# EAGLE library part HD647751* (library micro-hitachi)
SH7751 Hitachi SuperH RISC engine The SH7751 Series microprocessor, featuring a built-in PCI bus controller compatible with PCs and multimedia devices. Source: Hitachi, Ltd. SH7751_R_V3.0.pdf
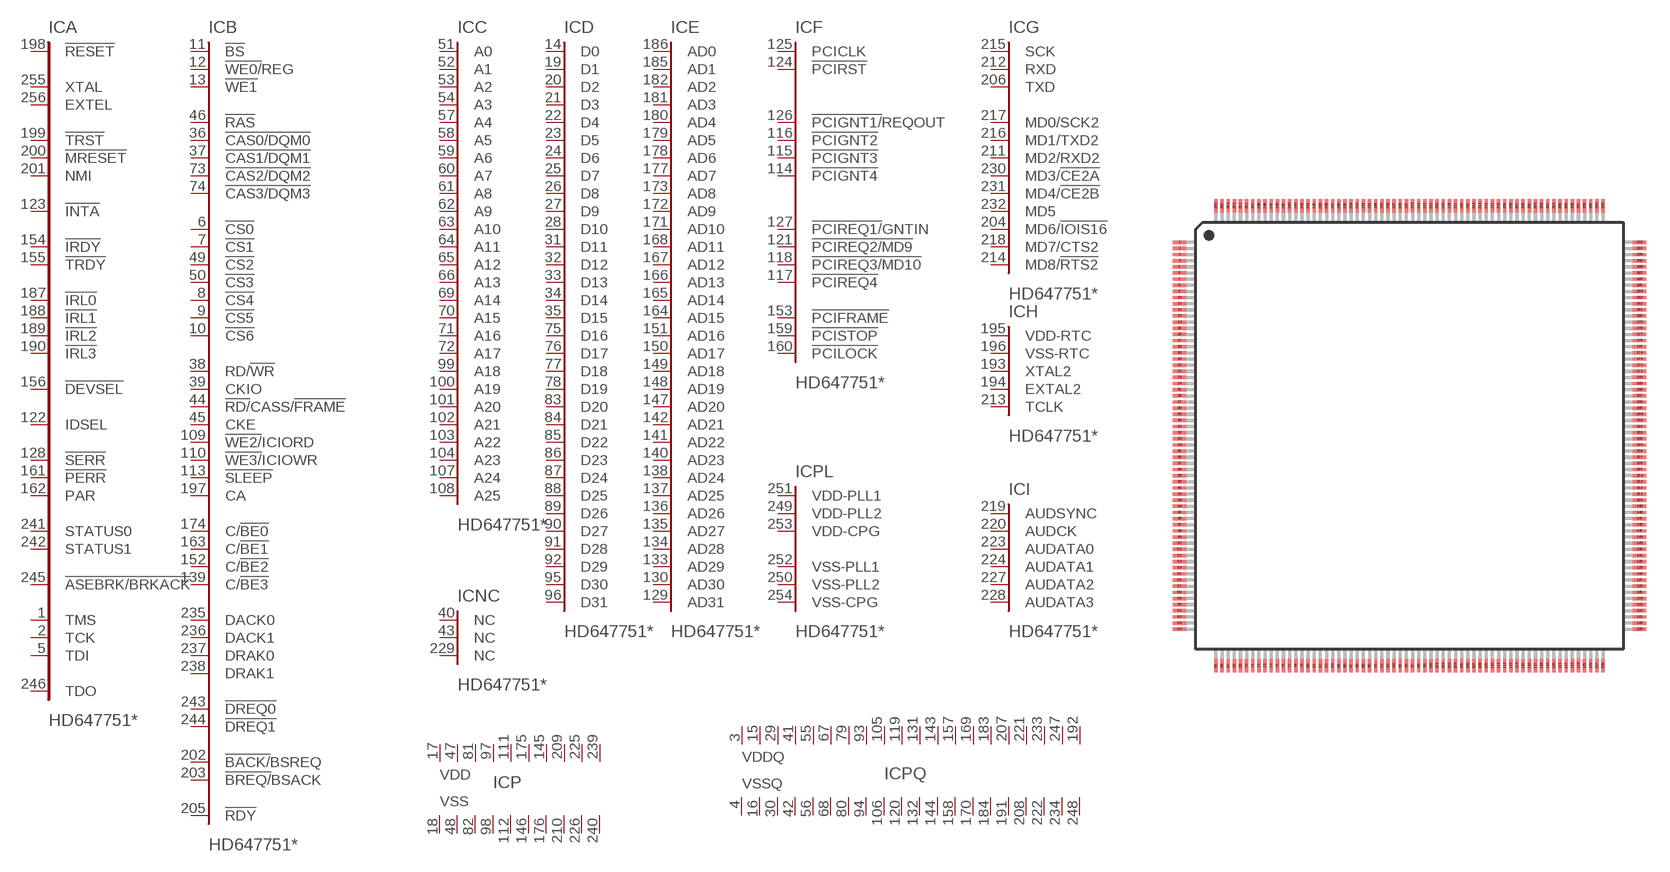
[diagram p1: symbol with the pads of QFP256-28X28; footprint QFP256-28X28]

Designator prefix IC; gates A=SH7751-S C=SH7751-A D=SH7751-D E=SH7751-AD G=SH7751-SER H=SH7751-RTC I=SH7751-AU P=SH7751-PWR PQ=SH7751-PWRQ_Q PL=SH7751-PLL NC=SH7751-NCQ B=SH7751-CONTROL F=SH7751-PCI

## HD647751F167 (OC_FARNELL: unknown; OC_NEWARK: unknown), HD647751RF200 (OC_FARNELL: unknown; OC_NEWARK: unknown), HD647751RF240 (OC_FARNELL: unknown; OC_NEWARK: unknown)  [QFP256-28X28]
1  A:TMS  in
2  A:TCK  in
3  PQ:VDDQ  pwr
4  PQ:VSSQ  pwr
5  A:TDI  in
6  B:!CS0  out
7  B:!CS1  out
8  B:!CS4  out
9  B:!CS5  out
10  B:!CS6  out
11  B:!BS  out
12  B:!WE0/!REG  out
13  B:!WE1  out
14  D:D0
15  PQ:VDDQ  pwr
16  PQ:VSSQ  pwr
17  P:VDD  pwr
18  P:VSS  pwr
19  D:D1
20  D:D2
21  D:D3
22  D:D4
23  D:D5
24  D:D6
25  D:D7
26  D:D8
27  D:D9
28  D:D10
29  PQ:VDDQ  pwr
30  PQ:VSSQ  pwr
31  D:D11
32  D:D12
33  D:D13
34  D:D14
35  D:D15
36  B:!CAS0/DQM0  out
37  B:!CAS1/DQM1  out
38  B:RD/!WR  out
39  B:CKIO  out
40  NC:NC  nc
41  PQ:VDDQ  pwr
42  PQ:VSSQ  pwr
43  NC:NC  nc
44  B:!RD/!CASS/!FRAME  out
45  B:CKE  out
46  B:!RAS  out
47  P:VDD  pwr
48  P:VSS  pwr
49  B:!CS2  out
50  B:!CS3  out
51  C:A0  out
52  C:A1  out
53  C:A2  out
54  C:A3  out
55  PQ:VDDQ  pwr
56  PQ:VSSQ  pwr
57  C:A4  out
58  C:A5  out
59  C:A6  out
60  C:A7  out
61  C:A8  out
62  C:A9  out
63  C:A10  out
64  C:A11  out
65  C:A12  out
66  C:A13  out
67  PQ:VDDQ  pwr
68  PQ:VSSQ  pwr
69  C:A14  out
70  C:A15  out
71  C:A16  out
72  C:A17  out
73  B:!CAS2/DQM2  out
74  B:!CAS3/DQM3  out
75  D:D16
76  D:D17
77  D:D18
78  D:D19
79  PQ:VDDQ  pwr
80  PQ:VSSQ  pwr
81  P:VDD  pwr
82  P:VSS  pwr
83  D:D20
84  D:D21
85  D:D22
86  D:D23
87  D:D24
88  D:D25
89  D:D26
90  D:D27
91  D:D28
92  D:D29
93  PQ:VDDQ  pwr
94  PQ:VSSQ  pwr
95  D:D30
96  D:D31
97  P:VDD  pwr
98  P:VSS  pwr
99  C:A18  out
100  C:A19  out
101  C:A20  out
102  C:A21  out
103  C:A22  out
104  C:A23  out
105  PQ:VDDQ  pwr
106  PQ:VSSQ  pwr
107  C:A24  out
108  C:A25  out
109  B:!WE2/!ICIORD  out
110  B:!WE3/!ICIOWR  out
111  P:VDD  pwr
112  P:VSS  pwr
113  B:!SLEEP  in
114  F:!PCIGNT4  out
115  F:!PCIGNT3  out
116  F:!PCIGNT2  out
117  F:!PCIREQ4  in
118  F:!PCIREQ3/MD10  in
119  PQ:VDDQ  pwr
120  PQ:VSSQ  pwr
121  F:!PCIREQ2/MD9  in
122  A:IDSEL  in
123  A:!INTA  out
124  F:!PCIRST  out
125  F:PCICLK  in
126  F:!PCIGNT1/!REQOUT  out
127  F:!PCIREQ1/!GNTIN  in
128  A:!SERR
129  E:AD31
130  E:AD30
131  PQ:VDDQ  pwr
132  PQ:VSSQ  pwr
133  E:AD29
134  E:AD28
135  E:AD27
136  E:AD26
137  E:AD25
138  E:AD24
139  B:C/!BE3
140  E:AD23
141  E:AD22
142  E:AD21
143  PQ:VDDQ  pwr
144  PQ:VSSQ  pwr
145  P:VDD  pwr
146  P:VSS  pwr
147  E:AD20
148  E:AD19
149  E:AD18
150  E:AD17
151  E:AD16
152  B:C/!BE2
153  F:!PCIFRAME
154  A:!IRDY
155  A:!TRDY
156  A:!DEVSEL
157  PQ:VDDQ  pwr
158  PQ:VSSQ  pwr
159  F:!PCISTOP
160  F:!PCILOCK
161  A:!PERR
162  A:PAR
163  B:C/!BE1
164  E:AD15
165  E:AD14
166  E:AD13
167  E:AD12
168  E:AD11
169  PQ:VDDQ  pwr
170  PQ:VSSQ  pwr
171  E:AD10
172  E:AD9
173  E:AD8
174  B:C/!BE0
175  P:VDD  pwr
176  P:VSS  pwr
177  E:AD7
178  E:AD6
179  E:AD5
180  E:AD4
181  E:AD3
182  E:AD2
183  PQ:VDDQ  pwr
184  PQ:VSSQ  pwr
185  E:AD1
186  E:AD0
187  A:!IRL0  in
188  A:!IRL1  in
189  A:!IRL2  in
190  A:!IRL3  in
191  PQ:VSSQ  pwr
192  PQ:VDDQ  pwr
193  H:XTAL2  out
194  H:EXTAL2  in
195  H:VDD-RTC  pwr
196  H:VSS-RTC  pwr
197  B:CA  in
198  A:!RESET  in
199  A:!TRST  in
200  A:!MRESET  in
201  A:NMI  in
202  B:!BACK/!BSREQ  out
203  B:!BREQ/!BSACK  in
204  G:MD6/!IOIS16  in
205  B:!RDY  in
206  G:TXD  out
207  PQ:VDDQ  pwr
208  PQ:VSSQ  pwr
209  P:VDD  pwr
210  P:VSS  pwr
211  G:MD2/RXD2  in
212  G:RXD  in
213  H:TCLK
214  G:MD8/!RTS2
215  G:SCK
216  G:MD1/TXD2
217  G:MD0/SCK2
218  G:MD7/CTS2
219  I:AUDSYNC  pas
220  I:AUDCK  pas
221  PQ:VDDQ  pwr
222  PQ:VSSQ  pwr
223  I:AUDATA0  pas
224  I:AUDATA1  pas
225  P:VDD  pwr
226  P:VSS  pwr
227  I:AUDATA2  pas
228  I:AUDATA3  pas
229  NC:NC  nc
230  G:MD3/!CE2A
231  G:MD4/!CE2B
232  G:MD5  in
233  PQ:VDDQ  pwr
234  PQ:VSSQ  pwr
235  B:DACK0  out
236  B:DACK1  out
237  B:DRAK0  out
238  B:DRAK1  out
239  P:VDD  pwr
240  P:VSS  pwr
241  A:STATUS0  out
242  A:STATUS1  out
243  B:!DREQ0  in
244  B:!DREQ1  in
245  A:!ASEBRK/BRKACK
246  A:TDO  out
247  PQ:VDDQ  pwr
248  PQ:VSSQ  pwr
249  PL:VDD-PLL2  pwr
250  PL:VSS-PLL2  pwr
251  PL:VDD-PLL1  pwr
252  PL:VSS-PLL1  pwr
253  PL:VDD-CPG  pwr
254  PL:VSS-CPG  pwr
255  A:XTAL  out
256  A:EXTEL  in

## Footprint QFP256-28X28 (pad centres in mm)
256-pin QFP Hitachi Code FP-256G Source: SH7751_R_V3.0.pdf
smd 0.9 x 0.22: 1 -14.975,12.6; 2 -14.975,12.2; 3 -14.975,11.8; 4 -14.975,11.4; 5 -14.975,11; 6 -14.975,10.6; 7 -14.975,10.2; 8 -14.975,9.8; 9 -14.975,9.4; 10 -14.975,9; 11 -14.975,8.6; 12 -14.975,8.2; 13 -14.975,7.8; 14 -14.975,7.4; 15 -14.975,7; 16 -14.975,6.6; 17 -14.975,6.2; 18 -14.975,5.8; 19 -14.975,5.4; 20 -14.975,5; 21 -14.975,4.6; 22 -14.975,4.2; 23 -14.975,3.8; 24 -14.975,3.4; 25 -14.975,3; 26 -14.975,2.6; 27 -14.975,2.2; 28 -14.975,1.8; 29 -14.975,1.4; 30 -14.975,1; 31 -14.975,0.6; 32 -14.975,0.2; 33 -14.975,-0.2; 34 -14.975,-0.6; 35 -14.975,-1; 36 -14.975,-1.4; 37 -14.975,-1.8; 38 -14.975,-2.2; 39 -14.975,-2.6; 40 -14.975,-3; 41 -14.975,-3.4; 42 -14.975,-3.8; 43 -14.975,-4.2; 44 -14.975,-4.6; 45 -14.975,-5; 46 -14.975,-5.4; 47 -14.975,-5.8; 48 -14.975,-6.2; 49 -14.975,-6.6; 50 -14.975,-7; 51 -14.975,-7.4; 52 -14.975,-7.8; 53 -14.975,-8.2; 54 -14.975,-8.6; 55 -14.975,-9; 56 -14.975,-9.4; 57 -14.975,-9.8; 58 -14.975,-10.2; 59 -14.975,-10.6; 60 -14.975,-11; 61 -14.975,-11.4; 62 -14.975,-11.8; 63 -14.975,-12.2; 64 -14.975,-12.6; 129 14.975,-12.6; 130 14.975,-12.2; 131 14.975,-11.8; 132 14.975,-11.4; 133 14.975,-11; 134 14.975,-10.6; 135 14.975,-10.2; 136 14.975,-9.8; 137 14.975,-9.4; 138 14.975,-9; 139 14.975,-8.6; 140 14.975,-8.2; 141 14.975,-7.8; 142 14.975,-7.4; 143 14.975,-7; 144 14.975,-6.6; 145 14.975,-6.2; 146 14.975,-5.8; 147 14.975,-5.4; 148 14.975,-5; 149 14.975,-4.6; 150 14.975,-4.2; 151 14.975,-3.8; 152 14.975,-3.4; 153 14.975,-3; 154 14.975,-2.6; 155 14.975,-2.2; 156 14.975,-1.8; 157 14.975,-1.4; 158 14.975,-1; 159 14.975,-0.6; 160 14.975,-0.2; 161 14.975,0.2; 162 14.975,0.6; 163 14.975,1; 164 14.975,1.4; 165 14.975,1.8; 166 14.975,2.2; 167 14.975,2.6; 168 14.975,3; 169 14.975,3.4; 170 14.975,3.8; 171 14.975,4.2; 172 14.975,4.6; 173 14.975,5; 174 14.975,5.4; 175 14.975,5.8; 176 14.975,6.2; 177 14.975,6.6; 178 14.975,7; 179 14.975,7.4; 180 14.975,7.8; 181 14.975,8.2; 182 14.975,8.6; 183 14.975,9; 184 14.975,9.4; 185 14.975,9.8; 186 14.975,10.2; 187 14.975,10.6; 188 14.975,11; 189 14.975,11.4; 190 14.975,11.8; 191 14.975,12.2; 192 14.975,12.6
smd 0.22 x 0.9: 65 -12.6,-14.975; 66 -12.2,-14.975; 67 -11.8,-14.975; 68 -11.4,-14.975; 69 -11,-14.975; 70 -10.6,-14.975; 71 -10.2,-14.975; 72 -9.8,-14.975; 73 -9.4,-14.975; 74 -9,-14.975; 75 -8.6,-14.975; 76 -8.2,-14.975; 77 -7.8,-14.975; 78 -7.4,-14.975; 79 -7,-14.975; 80 -6.6,-14.975; 81 -6.2,-14.975; 82 -5.8,-14.975; 83 -5.4,-14.975; 84 -5,-14.975; 85 -4.6,-14.975; 86 -4.2,-14.975; 87 -3.8,-14.975; 88 -3.4,-14.975; 89 -3,-14.975; 90 -2.6,-14.975; 91 -2.2,-14.975; 92 -1.8,-14.975; 93 -1.4,-14.975; 94 -1,-14.975; 95 -0.6,-14.975; 96 -0.2,-14.975; 97 0.2,-14.975; 98 0.6,-14.975; 99 1,-14.975; 100 1.4,-14.975; 101 1.8,-14.975; 102 2.2,-14.975; 103 2.6,-14.975; 104 3,-14.975; 105 3.4,-14.975; 106 3.8,-14.975; 107 4.2,-14.975; 108 4.6,-14.975; 109 5,-14.975; 110 5.4,-14.975; 111 5.8,-14.975; 112 6.2,-14.975; 113 6.6,-14.975; 114 7,-14.975; 115 7.4,-14.975; 116 7.8,-14.975; 117 8.2,-14.975; 118 8.6,-14.975; 119 9,-14.975; 120 9.4,-14.975; 121 9.8,-14.975; 122 10.2,-14.975; 123 10.6,-14.975; 124 11,-14.975; 125 11.4,-14.975; 126 11.8,-14.975; 127 12.2,-14.975; 128 12.6,-14.975; 193 12.6,14.975; 194 12.2,14.975; 195 11.8,14.975; 196 11.4,14.975; 197 11,14.975; 198 10.6,14.975; 199 10.2,14.975; 200 9.8,14.975; 201 9.4,14.975; 202 9,14.975; 203 8.6,14.975; 204 8.2,14.975; 205 7.8,14.975; 206 7.4,14.975; 207 7,14.975; 208 6.6,14.975; 209 6.2,14.975; 210 5.8,14.975; 211 5.4,14.975; 212 5,14.975; 213 4.6,14.975; 214 4.2,14.975; 215 3.8,14.975; 216 3.4,14.975; 217 3,14.975; 218 2.6,14.975; 219 2.2,14.975; 220 1.8,14.975; 221 1.4,14.975; 222 1,14.975; 223 0.6,14.975; 224 0.2,14.975; 225 -0.2,14.975; 226 -0.6,14.975; 227 -1,14.975; 228 -1.4,14.975; 229 -1.8,14.975; 230 -2.2,14.975; 231 -2.6,14.975; 232 -3,14.975; 233 -3.4,14.975; 234 -3.8,14.975; 235 -4.2,14.975; 236 -4.6,14.975; 237 -5,14.975; 238 -5.4,14.975; 239 -5.8,14.975; 240 -6.2,14.975; 241 -6.6,14.975; 242 -7,14.975; 243 -7.4,14.975; 244 -7.8,14.975; 245 -8.2,14.975; 246 -8.6,14.975; 247 -9,14.975; 248 -9.4,14.975; 249 -9.8,14.975; 250 -10.2,14.975; 251 -10.6,14.975; 252 -11,14.975; 253 -11.4,14.975; 254 -11.8,14.975; 255 -12.2,14.975; 256 -12.6,14.975